# EAGLE library part 691318400006 (library Wuerth_Elektronik_eiCan_Terminal_Blocks_v2.0)
WR-TBL Serie 3184 - 7.62 mm Close Vertical PCB Header with Flanges, 6 Pins
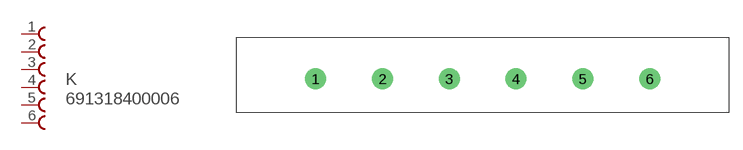
[diagram p185: symbol with the pads of 691318400006; footprint 691318400006]

Designator prefix K

## 691318400006  [691318400006]
1  1  pas
2  2  pas
3  3  pas
4  4  pas
5  5  pas
6  6  pas

## Footprint 691318400006 (pad centres in mm)
WR-TBL Serie 3184 - 7.62 mm Close Vertical PCB Header with Flanges, 6 Pins
drill 1.6 round: 1 -22.86,0; 2 -15.24,0; 3 -7.62,0; 4 0,0; 5 7.62,0; 6 15.24,0